# Altium footprint library STD35P6LLF6.PcbLib: 3 footprints
Each footprint in its own frame and in the unit in brackets; x right, y up, seen from the top. Pads: shape width x height; smd on the part's side, far side on the other; paste and mask are expansions set on the pad; w line width, h text height; cw(c..) or ccw(c..) is an arc to the next point about the centre after c.
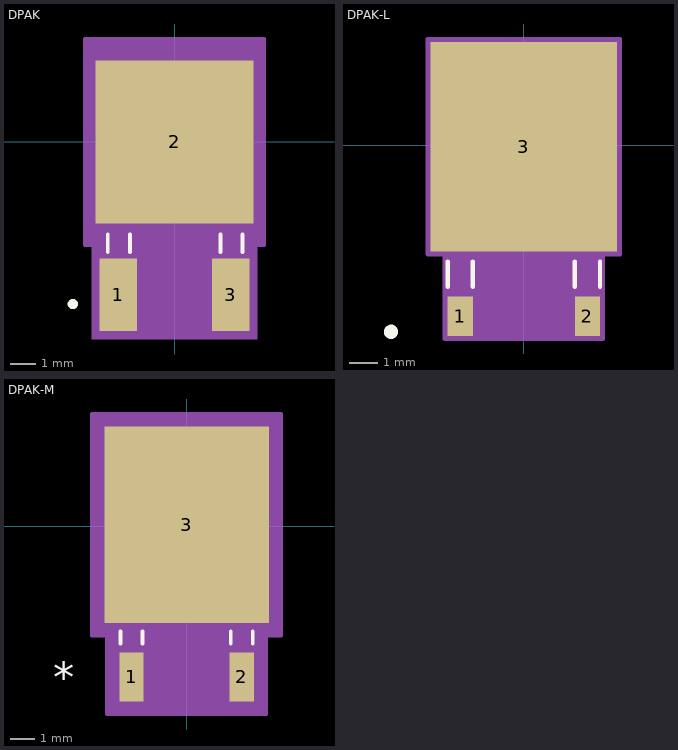
[diagram p0: the footprints below, top view; thin cyan lines are the x and y axes]

## DPAK [mm]
pads (3):
  rect 1.5x2.9 smd paste+0 mask+0: 1(-2.25,-6.109) 3(2.25,-6.109)
  rect 6.3x6.5 smd paste+0 mask+0: 2(0,0)
Top Overlay:
  circle w0.254: c-4.064,-6.477 r0.076
  lines w0.152: -2.667,-4.394 -2.667,-3.686 ; -1.778,-4.394 -1.778,-3.686 ; 1.833,-4.394 1.833,-3.686 ; 2.722,-4.394 2.722,-3.686
Mechanical 13:
  lines w0.025: -3.302,-3.505 3.302,-3.505 3.302,3.505 -3.302,3.505 -3.302,-3.505 ; -2.695,-6.604 -2.695,-3.505 -1.806,-3.505 -1.806,-6.604 -2.695,-6.604 ; 1.806,-6.604 1.806,-3.505 2.695,-3.505 2.695,-6.604 1.806,-6.604
  text "*" at -2.568,-3.886 h1.27
Mechanical 15:
  region: -3.302,-4.115 -3.581,-4.115 -3.581,4.115 3.581,4.115 3.581,-4.115 3.302,-4.115 3.302,-7.874 -3.302,-7.874
  lines w0.152: -3.581,-4.115 -3.581,4.115 3.581,4.115 3.581,-4.115 2.974,-4.115 2.974,-7.214 -2.974,-7.214 -2.974,-4.115 -3.581,-4.115
3D body: height 0.25, standoff 0, extent 0,0 0.254,0.254
3D body "DPAK.stp": height 2.42, standoff -0.05, extent -3.302,-5.258 3.302,3.508

## DPAK-L [mil]
pads (3):
  rect 35x55 smd paste+0 mask+0: 1(-88.58,-238.5) 2(88.58,-238.5)
  rect 260x292 smd paste+0 mask+0: 3(0,-2)
Top Overlay:
  circle w10: c-185,-260 r5
  lines w6: -106.08,-197 -106.08,-162 ; -71.08,-197 -71.08,-162 ; 71.08,-197 71.08,-162 ; 106.08,-197 106.08,-162
Mechanical 13:
  lines w1: -130,-138 -130,138 130,138 130,-138 -130,-138 ; -106.08,-260 -71.08,-260 -71.08,-138 -106.08,-138 -106.08,-260 ; 71.08,-260 106.08,-260 106.08,-138 71.08,-138 71.08,-260
  text "*" at -101.08,-153 h50
Mechanical 15:
  region: -110.08,-152 -134,-152 -134,148 134,148 134,-152 110.08,-152 110.08,-270 -110.08,-270
  lines w6: -134,-152 -110.08,-152 -110.08,-270 110.08,-270 110.08,-152 134,-152 134,148 -134,148 -134,-152
3D body: height 10, standoff 0, extent 0,0 10,10

## DPAK-M [mil]
pads (3):
  rect 39x79 smd paste+0 mask+0: 1(-88.58,-242.5) 2(88.58,-242.5)
  rect 264x316 smd paste+0 mask+0: 3(0,2)
Top Overlay:
  lines w6: -106.08,-189 -106.08,-169.1 ; -71.08,-189 -71.08,-169.1 ; 71.08,-189 71.08,-169.1 ; 106.08,-189 106.08,-169.1
  text "*" at -214.67,-267.5 h50
Mechanical 13:
  lines w1: -130,-138 -130,138 130,138 130,-138 -130,-138 ; -106.08,-260 -71.08,-260 -71.08,-138 -106.08,-138 -106.08,-260 ; 71.08,-260 106.08,-260 106.08,-138 71.08,-138 71.08,-260
  text "*" at -101.08,-153 h50
Mechanical 15:
  region: -128.08,-176 -152,-176 -152,180 152,180 152,-176 128.08,-176 128.08,-302 -128.08,-302
  lines w6: -152,-176 -128.08,-176 -128.08,-302 128.08,-302 128.08,-176 152,-176 152,180 -152,180 -152,-176
3D body: height 10, standoff 0, extent 0,0 10,10